# Altium footprint library CAPACITOR POLARIZED_M_1.PcbLib: 1 footprints
Each footprint in its own frame and in the unit in brackets; x right, y up, seen from the top. Pads: shape width x height; smd on the part's side, far side on the other; paste and mask are expansions set on the pad; w line width, h text height; cw(c..) or ccw(c..) is an arc to the next point about the centre after c.
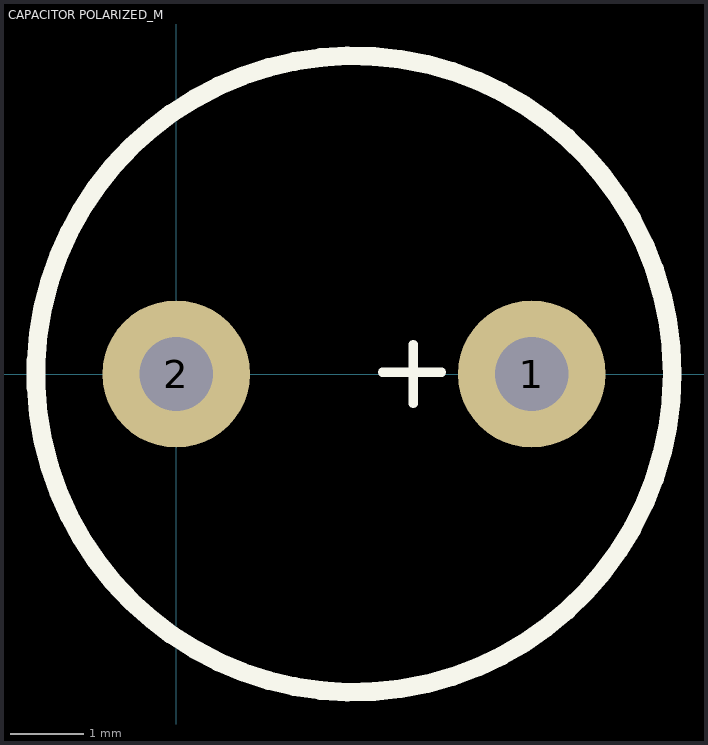
[diagram p0: the footprint, top view; thin cyan lines are the x and y axes]

## CAPACITOR POLARIZED_M [mm]
pads (2):
  round 2 hole 1: 1(4.826,0) 2(0,0)
Top Overlay:
  circle w0.254: c2.413,0 r4.318
  lines w0.127: 2.8,0.025 3.6,0.025 ; 3.215,-0.4 3.215,0.4
3D body: height 10, standoff 0, extent -1.818,-4.315 6.818,4.315